# Altium footprint library footprints.PcbLib: 30 footprints (part 2 of 2)
Each footprint in its own frame and in the unit in brackets; x right, y up, seen from the top. Pads: shape width x height; smd on the part's side, far side on the other; paste and mask are expansions set on the pad; w line width, h text height; cw(c..) or ccw(c..) is an arc to the next point about the centre after c.
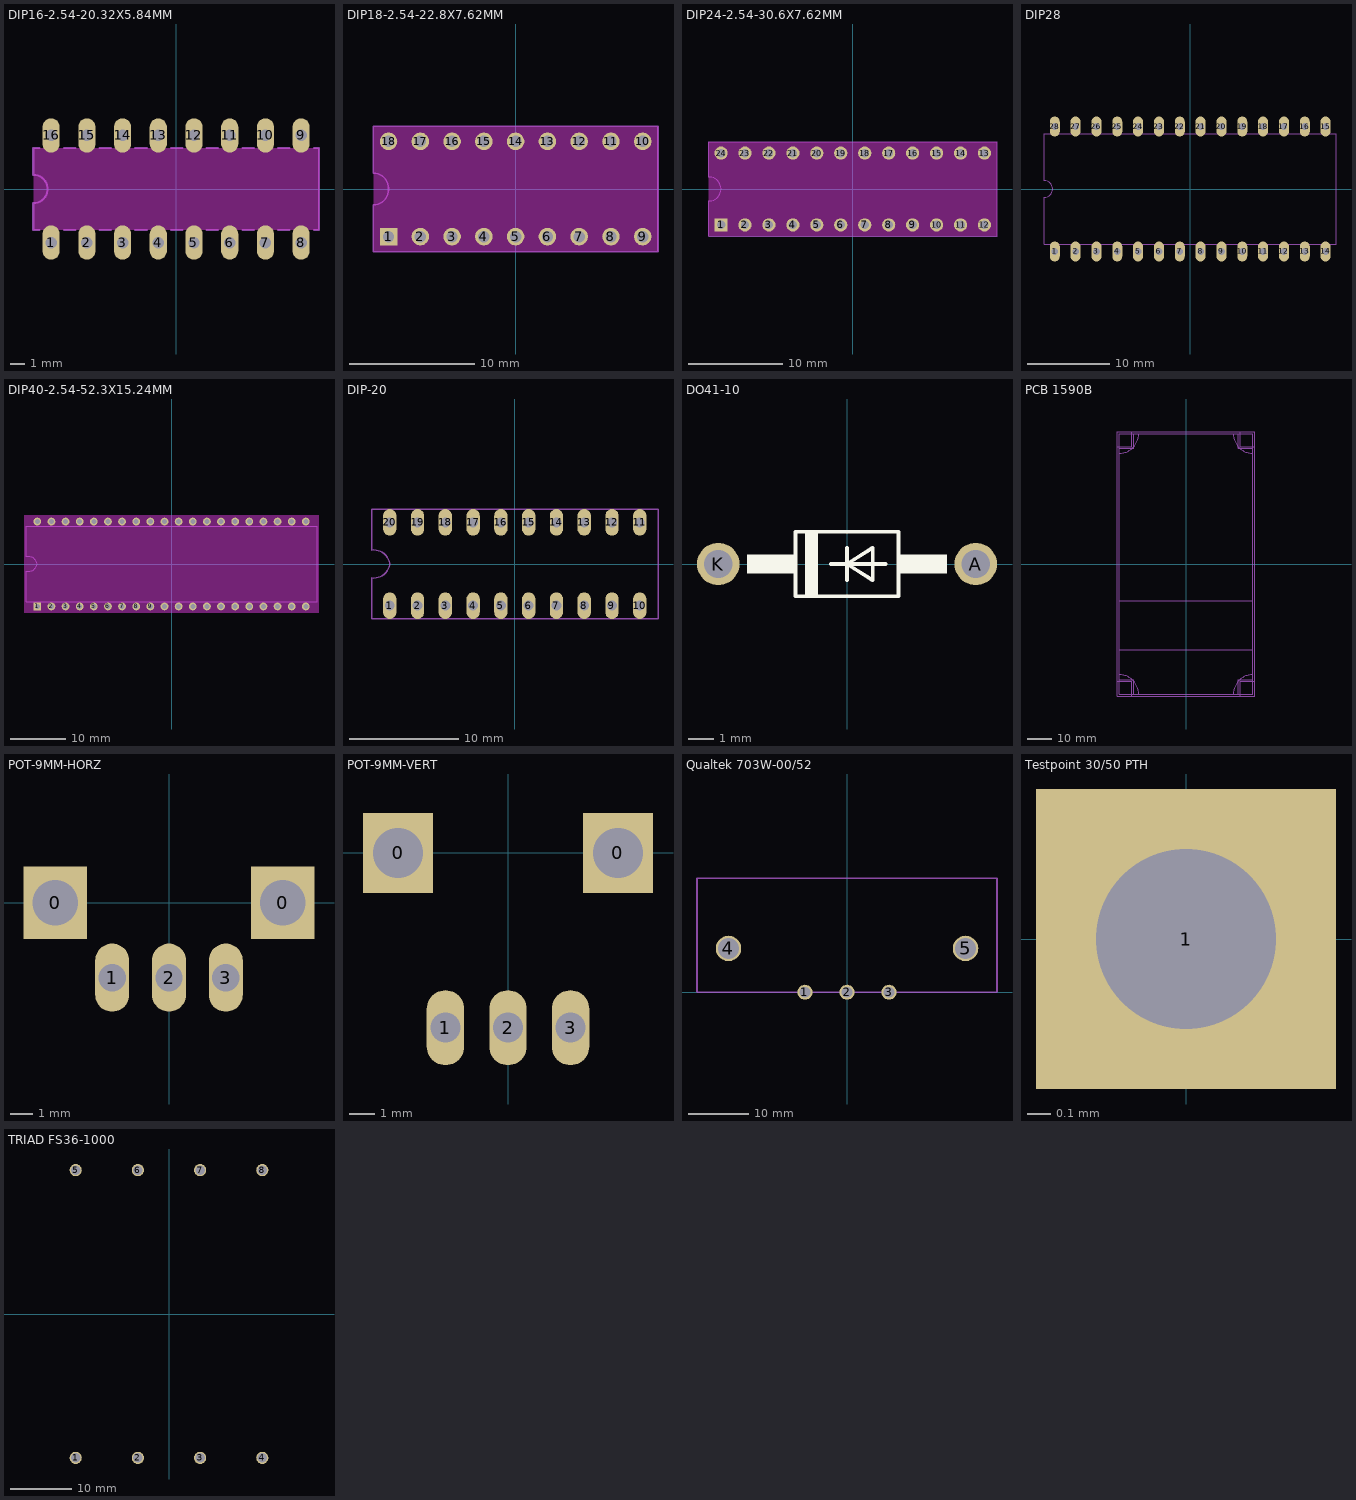
[diagram p1: the footprints below, top view; thin cyan lines are the x and y axes]

## DIP16-2.54-20.32X5.84MM [mil]
pads (16):
  oval 48x96 hole 32: 1(-350,-150) 2(-250,-150) 3(-150,-150) 4(-50,-150) 5(50,-150) 6(150,-150) 7(250,-150) 8(350,-150) 9(350,150) 10(250,150) 11(150,150) 12(50,150) 13(-50,150) 14(-150,150) 15(-250,150) 16(-350,150)
Keep-Out Layer:
  rectangle: -400,-115 400,115
Max Board Size:
  lines w5: -400,-115 -381.89,-115 ; -400,115 -381.89,115 ; -314.96,-115 -281.89,-115 ; -314.96,115 -281.89,115 ; -214.96,-115 -181.89,-115 ; -214.96,115 -181.89,115 ; -114.96,-115 -81.89,-115 ; -114.96,115 -81.89,115 ; -14.96,-115 18.11,-115 ; -14.96,115 18.11,115 ; 85.04,-115 118.11,-115 ; 85.04,115 118.11,115 ; 185.04,-115 218.11,-115 ; 185.04,115 218.11,115 ; 285.04,-115 318.11,-115 ; 285.04,115 318.11,115 ; 385.83,-115 400,-115 ; 385.83,115 400,115
  lines w6: -400,-115 -400,-40 ccw(c-400,0) -400,40 -400,115 ; 400,-115 400,115

## DIP18-2.54-22.8X7.62MM [mil]
pads (18):
  rect 55.12x55.12 hole 35.43: 1(-400,-150)
  round 55.12 hole 35.43: 2(-300,-150) 3(-200,-150) 4(-100,-150) 5(0,-150) 6(100,-150) 7(200,-150) 8(300,-150) 9(400,-150) 10(400,150) 11(300,150) 12(200,150) 13(100,150) 14(0,150) 15(-100,150) 16(-200,150) 17(-300,150) 18(-400,150)
Keep-Out Layer:
  rectangle: -448.03,-196.85 448.03,196.85
Max Board Size:
  lines w5: -448.03,-196.85 -448.03,-50 ccw(c-448.03,-1.97) -400,-1.97 -400,1.97 ccw(c-448.03,1.97) -448.03,50 -448.03,196.85 448.03,196.85 448.03,-196.85 -448.03,-196.85

## DIP24-2.54-30.6X7.62MM [mil]
pads (24):
  rect 55.12x55.12 hole 35.43: 1(-550,-150)
  round 55.12 hole 35.43: 2(-450,-150) 3(-350,-150) 4(-250,-150) 5(-150,-150) 6(-50,-150) 7(50,-150) 8(150,-150) 9(250,-150) 10(350,-150) 11(450,-150) 12(550,-150) 13(550,150) 14(450,150) 15(350,150) 16(250,150) 17(150,150) 18(50,150) 19(-50,150) 20(-150,150) 21(-250,150) 22(-350,150) 23(-450,150) 24(-550,150)
Keep-Out Layer:
  rectangle: -602.36,-196.85 602.36,196.85
Max Board Size:
  lines w5: -602.36,-196.85 -602.36,-50 ccw(c-600.2,0.2) -550,-1.97 -550,1.97 ccw(c-600.2,-0.2) -602.36,50 -602.36,196.85 602.36,196.85 602.36,-196.85 -602.36,-196.85

## DIP28 [mil]
pads (28):
  oval 48x96 hole 32: 1(-650,-300) 2(-550,-300) 3(-450,-300) 4(-350,-300) 5(-250,-300) 6(-150,-300) 7(-50,-300) 8(50,-300) 9(150,-300) 10(250,-300) 11(350,-300) 12(450,-300) 13(550,-300) 14(650,-300) 15(650,300) 16(550,300) 17(450,300) 18(350,300) 19(250,300) 20(150,300) 21(50,300) 22(-50,300) 23(-150,300) 24(-250,300) 25(-350,300) 26(-450,300) 27(-550,300) 28(-650,300)
Max Board Size:
  lines w6: -700,-265 700,-265 700,265 -700,265 -700,40 cw(c-700,0) -700,-40 -700,-265

## DIP40-2.54-52.3X15.24MM [mil]
pads (40):
  rect 55.12x55.12 hole 35.43: 1(-950,-300)
  round 55.12 hole 35.43: 2(-850,-300) 3(-750,-300) 4(-650,-300) 5(-550,-300) 6(-450,-300) 7(-350,-300) 8(-250,-300) 9(-150,-300) 10(-50,-300) 11(50,-300) 12(150,-300) 13(250,-300) 14(350,-300) 15(450,-300) 16(550,-300) 17(650,-300) 18(750,-300) 19(850,-300) 20(950,-300) 21(950,300) 22(850,300) 23(750,300) 24(650,300) 25(550,300) 26(450,300) 27(350,300) 28(250,300) 29(150,300) 30(50,300) 31(-50,300) 32(-150,300) 33(-250,300) 34(-350,300) 35(-450,300) 36(-550,300) 37(-650,300) 38(-750,300) 39(-850,300) 40(-950,300)
Keep-Out Layer:
  rectangle: -1043.31,-346.85 1043.31,346.85
Max Board Size:
  lines w5: -1029.53,-265.75 -1029.53,-50 ccw(c-1013.78,13.78) -950,-1.97 -950,1.97 ccw(c-1013.78,-13.78) -1029.53,50 -1029.53,265.75 1029.53,265.75 1029.53,-265.75 -1029.53,-265.75

## DIP-20 [mil] "DIP-20 Package, 300mil row spacing"
height 129.92
pads (20):
  oval 48x96 hole 35.43: 1(-450,-150) 2(-350,-150) 3(-250,-150) 4(-150,-150) 5(-50,-150) 6(50,-150) 7(150,-150) 8(250,-150) 9(350,-150) 10(450,-150) 11(450,150) 12(350,150) 13(250,150) 14(150,150) 15(50,150) 16(-50,150) 17(-150,150) 18(-250,150) 19(-350,150) 20(-450,150)
Max Board Size:
  lines w5: -515.75,-196.85 -515.75,-50 ccw(c-506.89,6.89) -450,-1.97 -450,1.97 ccw(c-506.89,-6.89) -515.75,50 -515.75,196.85 515.75,196.85 515.75,-196.85 -515.75,-196.85

## DO41-10 [mil]
pads (2):
  round 66 hole 44: A(200,0) K(-200,0)
Top Overlay:
  rectangle: -155,-15 -80,15
  rectangle: 80,-15 155,15
  rectangle: -65,-50 -45,50
  lines w6: -25,0 0,0 ; 0,-25 0,0 ; 0,25 0,0 ; 60,0 0,0 ; 0,0 40,25 40,-25 0,0 ; -80,-50 -80,50 80,50 80,-50 -80,-50

## PCB 1590B [mil] "PCB outline for Hammond 1590B Enclosure 4.39\" x 2.34\" x 1.08\""
height 63
Safe Board Size:
  lines w10: -1072.83,-1852.36 -836.61,-1852.36 -836.61,-2088.58 ; -1072.83,-1773.62 cw(c-1072.83,-2088.58) -757.87,-2088.58 ; -1072.83,1773.62 ccw(c-1072.83,2088.58) -757.87,2088.58 ; -1072.83,1852.36 -836.61,1852.36 -836.61,2088.58 ; 757.87,-2088.58 cw(c1072.83,-2088.58) 1072.83,-1773.62 ; 757.87,2088.58 ccw(c1072.83,2088.58) 1072.83,1773.62 ; 770,2088.58 780,2088.58 ; 836.61,-2088.58 836.61,-1852.36 1072.83,-1852.36 ; 836.61,2088.58 836.61,1852.36 1072.83,1852.36 ; -1072.83,-2088.58 1072.83,-2088.58 1072.83,2088.58 -1072.83,2088.58 -1072.83,-2088.58
Max Board Size:
  lines w10: -1102.36,-1881.89 -866.14,-1881.89 -866.14,-2118.11 ; -1102.36,1881.89 -866.14,1881.89 -866.14,2118.11 ; 790,2118.11 795,2118.11 ; 866.14,-2118.11 866.14,-1881.89 1102.36,-1881.89 ; 866.14,2118.11 866.14,1881.89 1102.36,1881.89 ; -1102.36,-2118.11 -1102.36,2118.11 1102.36,2118.11 1102.36,-2118.11 -1102.36,-2118.11
Safe Board W/ Battery:
  lines w10: -1072.83,-1409.45 -1072.83,2088.58 1072.83,2088.58 1072.83,-1409.45 ; -1072.83,-1377.95 1072.83,-1377.95
Safe Board W/Batt & FS:
  lines w10: -1075.79,-590.55 1072.83,-590.55 1072.83,2088.58 -1072.83,2088.58 -1072.83,-590.55 ; -1075.79,2088.58 -1065.94,2088.58

## PCB 1590BB [mil] "PCB outline for Hammond 1590BB Enclosure 4.67\" x 3.68\" x 1.18\""
height 2480.32

## POT-9MM-HORZ [mm] "Bourns PTV09A-2x20F or similar"
height 10
pads (5):
  rect 2.8x3.2 hole 2 square: 0(-5,0) 0(5,0)
  oval 1.5x3 hole 1.2: 1(-2.5,-3.3) 2(0,-3.3) 3(2.5,-3.3)
3D body "ptv09a-2x20f-xxxx.stp": height 15.51, standoff -3.79, extent -5.233,-19.95 5.233,2.65

## POT-9MM-VERT [mm] "Bourns PTV09A-4x20F or similar"
height 20
pads (5):
  rect 2.8x3.2 hole 2 square: 0(-4.4,0) 0(4.4,0)
  oval 1.5x3 hole 1.2: 1(-2.5,-7) 2(0,-7) 3(2.5,-7)
3D body "ptv09a-4x20f-xxxx.stp": height 19.91, standoff -4.07, extent -5.7,-7.15 5.7,5.5

## Qualtek 703W-00/52 [mm] "Qualtek Power Inlet Module 703W-00/52"
height 28.2
pads (5):
  round 2.5 hole 1.8: 1(-7,0) 2(0,0) 3(7,0)
  round 4.25 hole 3.5: 4(-19.75,7.3) 5(19.75,7.3)
[M13] Top Body:
  lines w0.254: -25,0 -25,19 25,19 25,0 0,0 -25,0
3D body "EAC333.STEP": height 27.94, standoff -3.3, extent -25.146,-8.741 25.146,19.25

## Testpoint 30/50 PTH [mil] "Test Point, 30mil drill with 50mill pad, PTH"
pads (1):
  rect 50x50 hole 30: 1(0,0)

## TRIAD FS36-1000 [mm] "Triad Magnetics Power Transformer FS36-1000 / FS36-1000-C2"
height 39.675
pads (8):
  round 2 hole 1.525: 1(-15.24,-23.495) 2(-5.08,-23.495) 3(5.08,-23.495) 4(15.24,-23.495) 5(-15.24,23.495) 6(-5.08,23.495) 7(5.08,23.495) 8(15.24,23.495)
3D body "Triad Magnetics-FS36-1000-C2.STEP": height 4.09, standoff -41.53, extent -33.337,-27.775 33.363,27.775